# Altium schematic symbol library CM_CHOKE.SchLib: 1 symbol
Pins are listed as number, name and electrical type; pins without a type are passive.

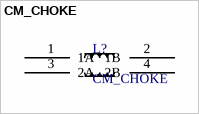
[diagram p0: symbol CM_CHOKE]

## CM_CHOKE
designator L?
Common mode choke
pins: 1 1A, 2 1B, 3 2A, 4 2B